# Altium footprint library linear-technology.PCBLIB: 28 footprints (part 2 of 2)
Each footprint in its own frame and in the unit in brackets; x right, y up, seen from the top. Pads: shape width x height; smd on the part's side, far side on the other; paste and mask are expansions set on the pad; w line width, h text height; cw(c..) or ccw(c..) is an arc to the next point about the centre after c.
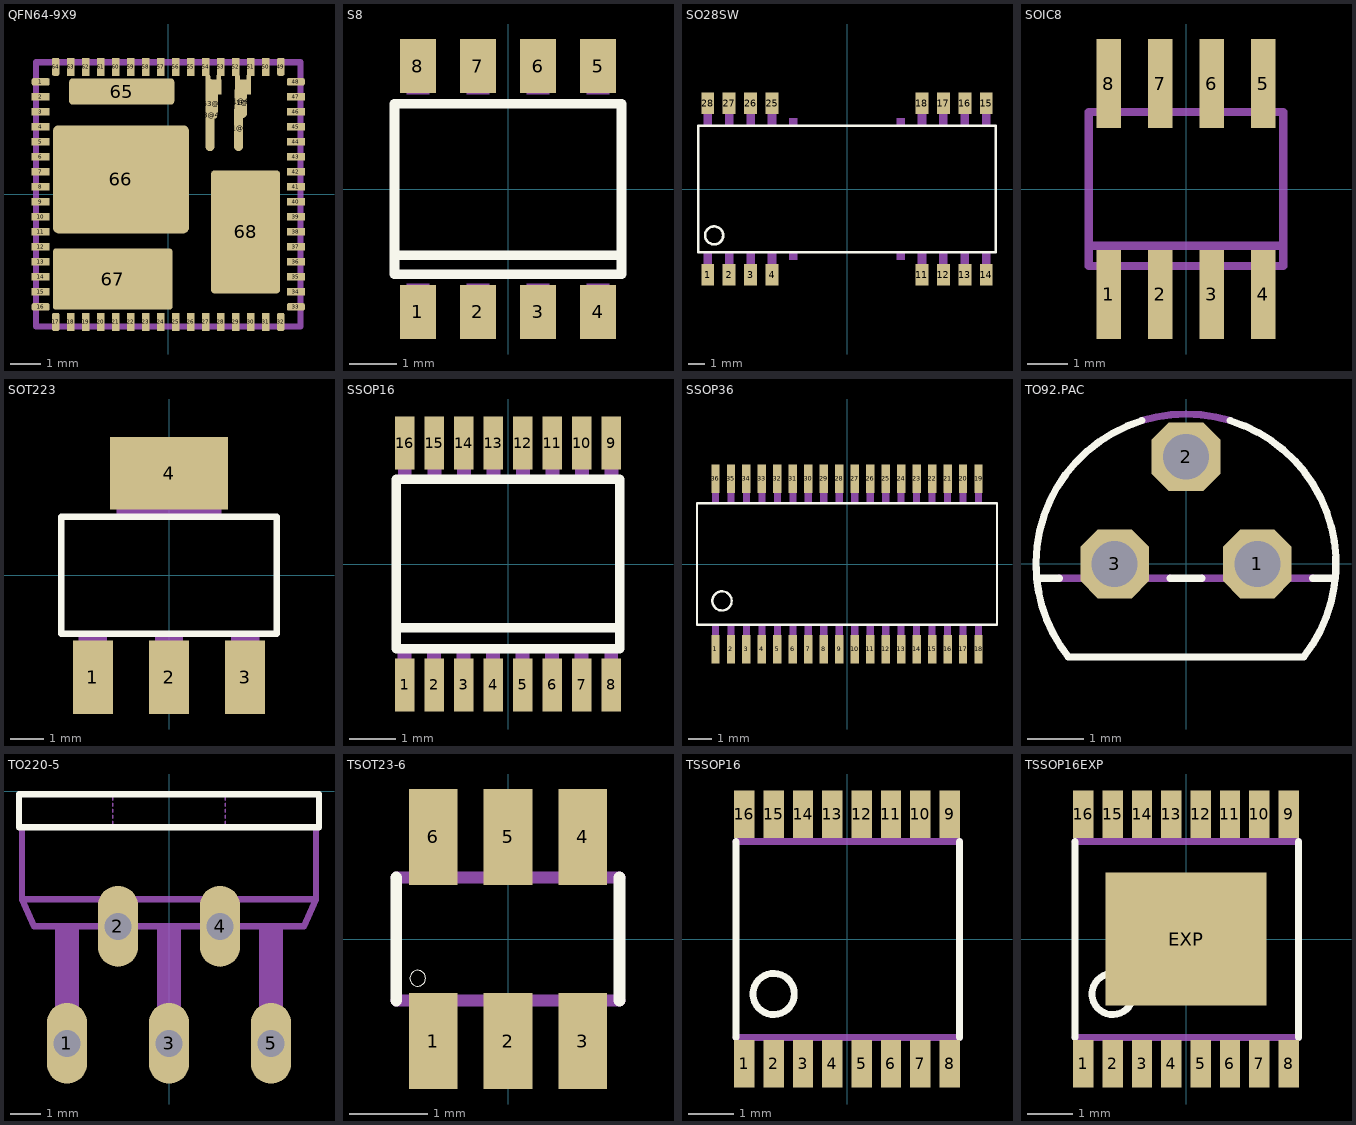
[diagram p1: the footprints below, top view; thin cyan lines are the x and y axes]

## QFN64-9X9 [mm]
pads (79):
  rrect50% 0.6x0.25 smd: 1(-4.25,3.75) 16(-4.25,-3.75) 33(4.25,-3.75) 48(4.25,3.75)
  rect 0.6x0.25 smd: 2(-4.25,3.25) 3(-4.25,2.75) 4(-4.25,2.25) 5(-4.25,1.75) 6(-4.25,1.25) 7(-4.25,0.75) 8(-4.25,0.25) 9(-4.25,-0.25) 10(-4.25,-0.75) 11(-4.25,-1.25) 12(-4.25,-1.75) 13(-4.25,-2.25) 14(-4.25,-2.75) 15(-4.25,-3.25) 34(4.25,-3.25) 35(4.25,-2.75) 36(4.25,-2.25) 37(4.25,-1.75) 38(4.25,-1.25) 39(4.25,-0.75) 40(4.25,-0.25) 41(4.25,0.25) 42(4.25,0.75) 43(4.25,1.25) 44(4.25,1.75) 45(4.25,2.25) 46(4.25,2.75) 47(4.25,3.25)
  rrect50% 0.25x0.6 smd: 17(-3.75,-4.25) 32(3.75,-4.25) 49(3.75,4.25) 64(-3.75,4.25)
  rect 0.25x0.6 smd: 18(-3.25,-4.25) 19(-2.75,-4.25) 20(-2.25,-4.25) 21(-1.75,-4.25) 22(-1.25,-4.25) 23(-0.75,-4.25) 24(-0.25,-4.25) 25(0.25,-4.25) 26(0.75,-4.25) 27(1.25,-4.25) 28(1.75,-4.25) 29(2.25,-4.25) 30(2.75,-4.25) 31(3.25,-4.25) 50(3.25,4.25) 51(2.75,4.25) 52(2.25,4.25) 53(1.75,4.25) 54(1.25,4.25) 55(0.75,4.25) 56(0.25,4.25) 57(-0.25,4.25) 58(-0.75,4.25) 59(-1.25,4.25) 60(-1.75,4.25) 61(-2.25,4.25) 62(-2.75,4.25) 63(-3.25,4.25)
  rrect50% 0.16x0.3 smd: 51@1(2.68,3.83) 52@1(2.31,3.83) 53@1(1.68,3.83) 54@1(1.32,3.83)
  rect 0.53x0.5 smd: 51@2(2.495,3.58) 53@2(1.505,3.58)
  rrect100% 0.3x1 smd: 51@3(2.475,3.045) 51@4(2.36,3.1) 53@3(1.51,3.015)
  rrect100% 0.3x1.5 smd: 51@5(2.34,2.195)
  rrect100% 0.3x2.4 smd: 53@4(1.39,2.64)
  rrect25% 3.5x0.87 smd: 65(-1.55,3.425)
  rrect10% 4.53x3.6 smd: 66(-1.575,0.5)
  rrect10% 3.99x2.04 smd: 67(-1.85,-2.825)
  rrect10% 2.3x4.1 smd: 68(2.575,-1.25)
Top Paste:
  rectangle: -4.525,3.65 -3.975,3.85
  rectangle: -4.525,3.15 -3.975,3.35
  rectangle: -4.525,2.65 -3.975,2.85
  rectangle: -4.525,2.15 -3.975,2.35
  rectangle: -4.525,1.65 -3.975,1.85
  rectangle: -4.525,1.15 -3.975,1.35
  rectangle: -4.525,0.65 -3.975,0.85
  rectangle: -4.525,0.15 -3.975,0.35
  rectangle: -4.525,-0.35 -3.975,-0.15
  rectangle: -4.525,-0.85 -3.975,-0.65
  rectangle: -4.525,-1.35 -3.975,-1.15
  rectangle: -4.525,-1.85 -3.975,-1.65
  rectangle: -4.525,-2.35 -3.975,-2.15
  rectangle: -4.525,-2.85 -3.975,-2.65
  rectangle: -4.525,-3.35 -3.975,-3.15
  rectangle: -4.525,-3.85 -3.975,-3.65
  region: -3.65,-4.525 -3.65,-3.975 -3.85,-3.975 -3.85,-4.525
  region: -3.15,-4.525 -3.15,-3.975 -3.35,-3.975 -3.35,-4.525
  region: -2.65,-4.525 -2.65,-3.975 -2.85,-3.975 -2.85,-4.525
  region: -2.15,-4.525 -2.15,-3.975 -2.35,-3.975 -2.35,-4.525
  region: -1.65,-4.525 -1.65,-3.975 -1.85,-3.975 -1.85,-4.525
  region: -1.15,-4.525 -1.15,-3.975 -1.35,-3.975 -1.35,-4.525
  region: -0.65,-4.525 -0.65,-3.975 -0.85,-3.975 -0.85,-4.525
  region: -0.15,-4.525 -0.15,-3.975 -0.35,-3.975 -0.35,-4.525
  region: 0.35,-4.525 0.35,-3.975 0.15,-3.975 0.15,-4.525
  region: 0.85,-4.525 0.85,-3.975 0.65,-3.975 0.65,-4.525
  region: 1.35,-4.525 1.35,-3.975 1.15,-3.975 1.15,-4.525
  region: 1.85,-4.525 1.85,-3.975 1.65,-3.975 1.65,-4.525
  region: 2.35,-4.525 2.35,-3.975 2.15,-3.975 2.15,-4.525
  region: 2.85,-4.525 2.85,-3.975 2.65,-3.975 2.65,-4.525
  region: 3.35,-4.525 3.35,-3.975 3.15,-3.975 3.15,-4.525
  region: 3.85,-4.525 3.85,-3.975 3.65,-3.975 3.65,-4.525
  region: 4.525,-3.65 3.975,-3.65 3.975,-3.85 4.525,-3.85
  region: 4.525,-3.15 3.975,-3.15 3.975,-3.35 4.525,-3.35
  region: 4.525,-2.65 3.975,-2.65 3.975,-2.85 4.525,-2.85
  region: 4.525,-2.15 3.975,-2.15 3.975,-2.35 4.525,-2.35
  region: 4.525,-1.65 3.975,-1.65 3.975,-1.85 4.525,-1.85
  region: 4.525,-1.15 3.975,-1.15 3.975,-1.35 4.525,-1.35
  region: 4.525,-0.65 3.975,-0.65 3.975,-0.85 4.525,-0.85
  region: 4.525,-0.15 3.975,-0.15 3.975,-0.35 4.525,-0.35
  region: 4.525,0.35 3.975,0.35 3.975,0.15 4.525,0.15
  region: 4.525,0.85 3.975,0.85 3.975,0.65 4.525,0.65
  region: 4.525,1.35 3.975,1.35 3.975,1.15 4.525,1.15
  region: 4.525,1.85 3.975,1.85 3.975,1.65 4.525,1.65
  region: 4.525,2.35 3.975,2.35 3.975,2.15 4.525,2.15
  region: 4.525,2.85 3.975,2.85 3.975,2.65 4.525,2.65
  region: 4.525,3.35 3.975,3.35 3.975,3.15 4.525,3.15
  region: 4.525,3.85 3.975,3.85 3.975,3.65 4.525,3.65
  region: 3.65,4.525 3.65,3.975 3.85,3.975 3.85,4.525
  region: 3.15,4.525 3.15,3.975 3.35,3.975 3.35,4.525
  region: 2.65,4.525 2.65,3.975 2.85,3.975 2.85,4.525
  region: 2.15,4.525 2.15,3.975 2.35,3.975 2.35,4.525
  region: 1.65,4.525 1.65,3.975 1.85,3.975 1.85,4.525
  region: 1.15,4.525 1.15,3.975 1.35,3.975 1.35,4.525
  region: 0.65,4.525 0.65,3.975 0.85,3.975 0.85,4.525
  region: 0.15,4.525 0.15,3.975 0.35,3.975 0.35,4.525
  region: -0.35,4.525 -0.35,3.975 -0.15,3.975 -0.15,4.525
  region: -0.85,4.525 -0.85,3.975 -0.65,3.975 -0.65,4.525
  region: -1.35,4.525 -1.35,3.975 -1.15,3.975 -1.15,4.525
  region: -1.85,4.525 -1.85,3.975 -1.65,3.975 -1.65,4.525
  region: -2.35,4.525 -2.35,3.975 -2.15,3.975 -2.15,4.525
  region: -2.85,4.525 -2.85,3.975 -2.65,3.975 -2.65,4.525
  region: -3.35,4.525 -3.35,3.975 -3.15,3.975 -3.15,4.525
  region: -3.85,4.525 -3.85,3.975 -3.65,3.975 -3.65,4.525
  rectangle: -3.23,3.05 0.13,3.8
  rectangle: -3.72,-1.19 0.59,2.18
  rectangle: -3.75,-3.76 0.03,-1.91
  rectangle: 1.51,-3.21 3.63,0.7
  lines w0.25: 1.39,1.59 1.39,2.66 ; 2.33,2.72 2.39,3.68 2.59,3.68 2.59,3.36 2.33,2.74 2.34,1.6 ; 1.39,2.66 1.39,3.67 1.62,3.67 1.62,3.4 1.39,2.66
Top Solder:
  rectangle: -4.575,3.6 -3.925,3.9
  rectangle: -4.575,3.1 -3.925,3.4
  rectangle: -4.575,2.6 -3.925,2.9
  rectangle: -4.575,2.1 -3.925,2.4
  rectangle: -4.575,1.6 -3.925,1.9
  rectangle: -4.575,1.1 -3.925,1.4
  rectangle: -4.575,0.6 -3.925,0.9
  rectangle: -4.575,0.1 -3.925,0.4
  rectangle: -4.575,-0.4 -3.925,-0.1
  rectangle: -4.575,-0.9 -3.925,-0.6
  rectangle: -4.575,-1.4 -3.925,-1.1
  rectangle: -4.575,-1.9 -3.925,-1.6
  rectangle: -4.575,-2.4 -3.925,-2.1
  rectangle: -4.575,-2.9 -3.925,-2.6
  rectangle: -4.575,-3.4 -3.925,-3.1
  rectangle: -4.575,-3.9 -3.925,-3.6
  region: -3.6,-4.575 -3.6,-3.925 -3.9,-3.925 -3.9,-4.575
  region: -3.1,-4.575 -3.1,-3.925 -3.4,-3.925 -3.4,-4.575
  region: -2.6,-4.575 -2.6,-3.925 -2.9,-3.925 -2.9,-4.575
  region: -2.1,-4.575 -2.1,-3.925 -2.4,-3.925 -2.4,-4.575
  region: -1.6,-4.575 -1.6,-3.925 -1.9,-3.925 -1.9,-4.575
  region: -1.1,-4.575 -1.1,-3.925 -1.4,-3.925 -1.4,-4.575
  region: -0.6,-4.575 -0.6,-3.925 -0.9,-3.925 -0.9,-4.575
  region: -0.1,-4.575 -0.1,-3.925 -0.4,-3.925 -0.4,-4.575
  region: 0.4,-4.575 0.4,-3.925 0.1,-3.925 0.1,-4.575
  region: 0.9,-4.575 0.9,-3.925 0.6,-3.925 0.6,-4.575
  region: 1.4,-4.575 1.4,-3.925 1.1,-3.925 1.1,-4.575
  region: 1.9,-4.575 1.9,-3.925 1.6,-3.925 1.6,-4.575
  region: 2.4,-4.575 2.4,-3.925 2.1,-3.925 2.1,-4.575
  region: 2.9,-4.575 2.9,-3.925 2.6,-3.925 2.6,-4.575
  region: 3.4,-4.575 3.4,-3.925 3.1,-3.925 3.1,-4.575
  region: 3.9,-4.575 3.9,-3.925 3.6,-3.925 3.6,-4.575
  region: 4.575,-3.6 3.925,-3.6 3.925,-3.9 4.575,-3.9
  region: 4.575,-3.1 3.925,-3.1 3.925,-3.4 4.575,-3.4
  region: 4.575,-2.6 3.925,-2.6 3.925,-2.9 4.575,-2.9
  region: 4.575,-2.1 3.925,-2.1 3.925,-2.4 4.575,-2.4
  region: 4.575,-1.6 3.925,-1.6 3.925,-1.9 4.575,-1.9
  region: 4.575,-1.1 3.925,-1.1 3.925,-1.4 4.575,-1.4
  region: 4.575,-0.6 3.925,-0.6 3.925,-0.9 4.575,-0.9
  region: 4.575,-0.1 3.925,-0.1 3.925,-0.4 4.575,-0.4
  region: 4.575,0.4 3.925,0.4 3.925,0.1 4.575,0.1
  region: 4.575,0.9 3.925,0.9 3.925,0.6 4.575,0.6
  region: 4.575,1.4 3.925,1.4 3.925,1.1 4.575,1.1
  region: 4.575,1.9 3.925,1.9 3.925,1.6 4.575,1.6
  region: 4.575,2.4 3.925,2.4 3.925,2.1 4.575,2.1
  region: 4.575,2.9 3.925,2.9 3.925,2.6 4.575,2.6
  region: 4.575,3.4 3.925,3.4 3.925,3.1 4.575,3.1
  region: 4.575,3.9 3.925,3.9 3.925,3.6 4.575,3.6
  region: 3.6,4.575 3.6,3.925 3.9,3.925 3.9,4.575
  region: 3.1,4.575 3.1,3.925 3.4,3.925 3.4,4.575
  region: 2.6,4.575 2.6,3.925 2.9,3.925 2.9,4.575
  region: 2.1,4.575 2.1,3.925 2.4,3.925 2.4,4.575
  region: 1.6,4.575 1.6,3.925 1.9,3.925 1.9,4.575
  region: 1.1,4.575 1.1,3.925 1.4,3.925 1.4,4.575
  region: 0.6,4.575 0.6,3.925 0.9,3.925 0.9,4.575
  region: 0.1,4.575 0.1,3.925 0.4,3.925 0.4,4.575
  region: -0.4,4.575 -0.4,3.925 -0.1,3.925 -0.1,4.575
  region: -0.9,4.575 -0.9,3.925 -0.6,3.925 -0.6,4.575
  region: -1.4,4.575 -1.4,3.925 -1.1,3.925 -1.1,4.575
  region: -1.9,4.575 -1.9,3.925 -1.6,3.925 -1.6,4.575
  region: -2.4,4.575 -2.4,3.925 -2.1,3.925 -2.1,4.575
  region: -2.9,4.575 -2.9,3.925 -2.6,3.925 -2.6,4.575
  region: -3.4,4.575 -3.4,3.925 -3.1,3.925 -3.1,4.575
  region: -3.9,4.575 -3.9,3.925 -3.6,3.925 -3.6,4.575
  rectangle: -3.325,2.975 0.225,3.875
  rectangle: -3.875,-1.325 0.725,2.325
  rectangle: -3.875,-3.875 0.175,-1.775
  rectangle: 1.4,-3.325 3.75,0.825
  rectangle: 2.35,2.84 2.6,3.85
  rectangle: 1.4,2.95 1.55,3.85
  lines w0.25: 1.32,3.92 1.32,1.54 1.45,1.54 1.45,2.63 ; 2.31,3.92 2.31,3.56 2.24,2.63 2.24,1.5 2.43,1.5 2.43,2.67 2.68,3.3 2.68,3.92
  lines w0.3: 1.45,2.7 1.675,3.375 1.675,3.95
Mechanical 16:
  lines w0.203: -4.4,-4.4 4.4,-4.4 4.4,4.4 -4.4,4.4 -4.4,-4.4

## S8 [mil]
pads (8):
  rect 30x45 smd: 1(-75,-102.36) 2(-25,-102.36) 3(25,-102.36) 4(75,-102.36) 5(75,102.36) 6(25,102.36) 7(-25,102.36) 8(-75,102.36)
Top Overlay:
  lines w8: -94.49,-55.12 -94.49,-70.87 94.49,-70.87 94.49,-55.12 ; -94.49,-55.12 -94.49,70.87 94.49,70.87 94.49,-55.12 ; -94.49,-55.12 94.49,-55.12
Mechanical 16:
  rectangle: -84.65,-122.05 -65.35,-78.74
  rectangle: -34.65,-122.05 -15.35,-78.74
  rectangle: 15.35,-122.05 34.65,-78.74
  rectangle: 65.35,-122.05 84.65,-78.74
  rectangle: 65.35,78.74 84.65,122.05
  rectangle: 15.35,78.74 34.65,122.05
  rectangle: -34.65,78.74 -15.35,122.05
  rectangle: -84.65,78.74 -65.35,122.05

## SO28SW [mil]
pads (16):
  rect 30x50 smd: 1(-325,-200) 2(-275,-200) 3(-225,-200) 4(-175,-200) 11(175,-200) 12(225,-200) 13(275,-200) 14(325,-200) 15(325,200) 16(275,200) 17(225,200) 18(175,200) 25(-175,200) 26(-225,200) 27(-275,200) 28(-325,200)
Top Overlay:
  circle w6: c-310,-108.25 r21
  lines w6: -347.44,-147.64 347.44,-147.64 347.44,147.64 -347.44,147.64 -347.44,-147.64
Mechanical 16:
  rectangle: -335,-208.25 -315,-148.25
  rectangle: -285,-208.25 -265,-148.25
  rectangle: -235,-208.25 -215,-148.25
  rectangle: -185,-208.25 -165,-148.25
  rectangle: -135,-165.35 -115,-148.25
  rectangle: 115,-165.35 135,-148.25
  rectangle: 165,-208.25 185,-148.25
  rectangle: 215,-208.25 235,-148.25
  rectangle: 265,-208.25 285,-148.25
  rectangle: 315,-208.25 335,-148.25
  region: 335,208.25 315,208.25 315,148.25 335,148.25
  region: 285,208.25 265,208.25 265,148.25 285,148.25
  region: 235,208.25 215,208.25 215,148.25 235,148.25
  region: 185,208.25 165,208.25 165,148.25 185,148.25
  region: 135,165.35 115,165.35 115,148.25 135,148.25
  region: -115,165.35 -135,165.35 -135,148.25 -115,148.25
  region: -165,208.25 -185,208.25 -185,148.25 -165,148.25
  region: -215,208.25 -235,208.25 -235,148.25 -215,148.25
  region: -265,208.25 -285,208.25 -285,148.25 -265,148.25
  region: -315,208.25 -335,208.25 -335,148.25 -315,148.25

## SOIC8 [mm]
pads (8):
  rect 0.6x2.2 smd: 1(-1.905,-2.6) 2(-0.635,-2.6) 3(0.635,-2.6) 4(1.905,-2.6) 5(1.905,2.6) 6(0.635,2.6) 7(-0.635,2.6) 8(-1.905,2.6)
Mechanical 16:
  rectangle: -2.15,-3.1 -1.66,-2
  rectangle: -0.88,-3.1 -0.39,-2
  rectangle: 0.39,-3.1 0.88,-2
  rectangle: 1.66,-3.1 2.15,-2
  rectangle: 1.66,2 2.15,3.1
  rectangle: 0.39,2 0.88,3.1
  rectangle: -0.88,2 -0.39,3.1
  rectangle: -2.15,2 -1.66,3.1
  lines w0.203: -2.4,-1.4 -2.4,-1.9 2.4,-1.9 2.4,-1.4 ; -2.4,-1.4 -2.4,1.9 2.4,1.9 2.4,-1.4 ; -2.4,-1.4 2.4,-1.4

## SOT223 [mil]
pads (4):
  rect 48x88 smd: 1(-91,-122) 2(0,-122) 3(91,-122)
  rect 141.73x86.61 smd: 4(0,122.01)
Top Overlay:
  lines w8: -129,-70 129,-70 129,70 -129,70 -129,-70
Mechanical 16:
  rectangle: -63,71 63,144
  rectangle: -17,-144 17,-71
  rectangle: -108,-144 -74,-71
  rectangle: 74,-144 108,-71
  rectangle: -63,71 63,144
  rectangle: -17,-144 17,-71
  rectangle: -108,-144 -74,-71
  rectangle: 74,-144 108,-71

## SSOP16 [mil]
pads (16):
  rect 16.5x45 smd: 1(-87.5,-102.36) 2(-62.5,-102.36) 3(-37.5,-102.36) 4(-12.5,-102.36) 5(12.5,-102.36) 6(37.5,-102.36) 7(62.5,-102.36) 8(87.5,-102.36) 9(87.5,102.36) 10(62.5,102.36) 11(37.5,102.36) 12(12.5,102.36) 13(-12.5,102.36) 14(-37.5,102.36) 15(-62.5,102.36) 16(-87.5,102.36)
Top Overlay:
  lines w8: -94.49,-54.13 -94.49,-71.85 94.49,-71.85 94.49,-54.13 ; -94.49,-54.13 -94.49,71.85 94.49,71.85 94.49,-54.13 ; -94.49,-54.13 94.49,-54.13
Top Paste:
  rectangle: -95,-124 -80,-81
  rectangle: -70,-124 -55,-81
  rectangle: -45,-124 -30,-81
  rectangle: -20,-124 -5,-81
  rectangle: 5,-124 20,-81
  rectangle: 30,-124 45,-81
  rectangle: 55,-124 70,-81
  rectangle: 80,-124 95,-81
  region: 95,124 80,124 80,81 95,81
  region: 70,124 55,124 55,81 70,81
  region: 45,124 30,124 30,81 45,81
  region: 20,124 5,124 5,81 20,81
  region: -5,124 -20,124 -20,81 -5,81
  region: -30,124 -45,124 -45,81 -30,81
  region: -55,124 -70,124 -70,81 -55,81
  region: -80,124 -95,124 -95,81 -80,81
Top Solder:
  rectangle: -97,-127 -78,-78
  rectangle: -72,-127 -53,-78
  rectangle: -47,-127 -28,-78
  rectangle: -22,-127 -3,-78
  rectangle: 3,-127 22,-78
  rectangle: 28,-127 47,-78
  rectangle: 53,-127 72,-78
  rectangle: 78,-127 97,-78
  region: 97,127 78,127 78,78 97,78
  region: 72,127 53,127 53,78 72,78
  region: 47,127 28,127 28,78 47,78
  region: 22,127 3,127 3,78 22,78
  region: -3,127 -22,127 -22,78 -3,78
  region: -28,127 -47,127 -47,78 -28,78
  region: -53,127 -72,127 -72,78 -53,78
  region: -78,127 -97,127 -97,78 -78,78
Mechanical 16:
  rectangle: -93.5,-122.05 -81.69,-74.8
  rectangle: -68.5,-122.05 -56.69,-74.8
  rectangle: -43.5,-122.05 -31.69,-74.8
  rectangle: -18.5,-122.05 -6.69,-74.8
  rectangle: 6.5,-122.05 18.31,-74.8
  rectangle: 31.5,-122.05 43.31,-74.8
  rectangle: 56.5,-122.05 68.31,-74.8
  rectangle: 81.5,-122.05 93.31,-74.8
  region: 93.5,122.05 81.69,122.05 81.69,74.8 93.5,74.8
  region: 68.5,122.05 56.69,122.05 56.69,74.8 68.5,74.8
  region: 43.5,122.05 31.69,122.05 31.69,74.8 43.5,74.8
  region: 18.5,122.05 6.69,122.05 6.69,74.8 18.5,74.8
  region: -6.5,122.05 -18.31,122.05 -18.31,74.8 -6.5,74.8
  region: -31.5,122.05 -43.31,122.05 -43.31,74.8 -31.5,74.8
  region: -56.5,122.05 -68.31,122.05 -68.31,74.8 -56.5,74.8
  region: -81.5,122.05 -93.31,122.05 -93.31,74.8 -81.5,74.8

## SSOP36 [mm]
pads (36):
  rect 0.35x1.2 smd: 1(-5.525,-3.575) 2(-4.875,-3.575) 3(-4.225,-3.575) 4(-3.575,-3.575) 5(-2.925,-3.575) 6(-2.275,-3.575) 7(-1.625,-3.575) 8(-0.975,-3.575) 9(-0.325,-3.575) 10(0.325,-3.575) 11(0.975,-3.575) 12(1.625,-3.575) 13(2.275,-3.575) 14(2.925,-3.575) 15(3.575,-3.575) 16(4.225,-3.575) 17(4.875,-3.575) 18(5.525,-3.575) 19(5.525,3.575) 20(4.875,3.575) 21(4.225,3.575) 22(3.575,3.575) 23(2.925,3.575) 24(2.275,3.575) 25(1.625,3.575) 26(0.975,3.575) 27(0.325,3.575) 28(-0.325,3.575) 29(-0.975,3.575) 30(-1.625,3.575) 31(-2.275,3.575) 32(-2.925,3.575) 33(-3.575,3.575) 34(-4.225,3.575) 35(-4.875,3.575) 36(-5.525,3.575)
Top Overlay:
  circle w0.102: c-5.25,-1.55 r0.403
  lines w0.102: -6.3,-2.55 6.3,-2.55 6.3,2.55 -6.3,2.55 -6.3,-2.55
Mechanical 16:
  rectangle: -5.675,-3.95 -5.375,-2.55
  rectangle: -5.025,-3.95 -4.725,-2.55
  rectangle: -4.375,-3.95 -4.075,-2.55
  rectangle: -3.725,-3.95 -3.425,-2.55
  rectangle: -3.075,-3.95 -2.775,-2.55
  rectangle: -2.425,-3.95 -2.125,-2.55
  rectangle: -1.775,-3.95 -1.475,-2.55
  rectangle: -1.125,-3.95 -0.825,-2.55
  rectangle: -0.475,-3.95 -0.175,-2.55
  rectangle: 0.175,-3.95 0.475,-2.55
  rectangle: 0.825,-3.95 1.125,-2.55
  rectangle: 1.475,-3.95 1.775,-2.55
  rectangle: 2.125,-3.95 2.425,-2.55
  rectangle: 2.775,-3.95 3.075,-2.55
  rectangle: 3.425,-3.95 3.725,-2.55
  rectangle: 4.075,-3.95 4.375,-2.55
  rectangle: 4.725,-3.95 5.025,-2.55
  rectangle: 5.375,-3.95 5.675,-2.55
  region: 5.675,3.95 5.375,3.95 5.375,2.55 5.675,2.55
  region: 5.025,3.95 4.725,3.95 4.725,2.55 5.025,2.55
  region: 4.375,3.95 4.075,3.95 4.075,2.55 4.375,2.55
  region: 3.725,3.95 3.425,3.95 3.425,2.55 3.725,2.55
  region: 3.075,3.95 2.775,3.95 2.775,2.55 3.075,2.55
  region: 2.425,3.95 2.125,3.95 2.125,2.55 2.425,2.55
  region: 1.775,3.95 1.475,3.95 1.475,2.55 1.775,2.55
  region: 1.125,3.95 0.825,3.95 0.825,2.55 1.125,2.55
  region: 0.475,3.95 0.175,3.95 0.175,2.55 0.475,2.55
  region: -0.175,3.95 -0.475,3.95 -0.475,2.55 -0.175,2.55
  region: -0.825,3.95 -1.125,3.95 -1.125,2.55 -0.825,2.55
  region: -1.475,3.95 -1.775,3.95 -1.775,2.55 -1.475,2.55
  region: -2.125,3.95 -2.425,3.95 -2.425,2.55 -2.125,2.55
  region: -2.775,3.95 -3.075,3.95 -3.075,2.55 -2.775,2.55
  region: -3.425,3.95 -3.725,3.95 -3.725,2.55 -3.425,2.55
  region: -4.075,3.95 -4.375,3.95 -4.375,2.55 -4.075,2.55
  region: -4.725,3.95 -5.025,3.95 -5.025,2.55 -4.725,2.55
  region: -5.375,3.95 -5.675,3.95 -5.675,2.55 -5.375,2.55

## TO92.PAC [mil]
pads (3):
  oct 48x48 hole 32: 1(50,0) 2(0,75) 3(-50,0)
Top Overlay:
  lines w5: -88.73,-10 -104.52,-10 ; -30.96,100.33 ccw(c0,0) -104.52,-10 ; -11.27,-10 11.27,-10 ; 30.96,100.33 cw(c0,0) 82.46,-65 -82.46,-65 cw(c0,0) -104.52,-10 ; 88.73,-10 104.52,-10
Mechanical 16:
  lines w5: -88.73,-10 -11.27,-10 ; -30.96,100.33 cw(c0,-0.02) 30.96,100.33 ; 11.27,-10 88.73,-10
  text "2" at -25,25 h77.5
  text "3" at -85,0 h77.5
  text "1" at 45,0 h77.5

## TO220-5 [mm]
pads (5):
  oval 1.35x2.7 hole 0.9: 1(-3.4,-8.4) 2(-1.7,-4.5) 3(0,-8.4) 4(1.7,-4.5) 5(3.4,-8.4)
Top Overlay:
  lines w0.203: -5,-1.2 -5,-0.1 5,-0.1 5,-1.2 -5,-1.2
Mechanical 16:
  rectangle: -3.8,-8.6 -3,-7.5
  rectangle: -0.4,-8.6 0.4,-7.5
  rectangle: 3,-8.6 3.8,-7.5
  rectangle: -3.8,-7.5 -3,-4.5
  rectangle: -0.4,-7.5 0.4,-4.5
  rectangle: 3,-7.5 3.8,-4.5
  rectangle: -2.1,-4.7 -1.3,-4.5
  rectangle: 1.3,-4.7 2.1,-4.5
  lines w0.051: -1.87,-1.17 -1.87,-1 ; -1.87,-0.9 -1.87,-0.8 ; -1.87,-0.7 -1.87,-0.6 ; -1.87,-0.5 -1.87,-0.4 ; -1.87,-0.3 -1.87,-0.2 ; 1.87,-1.17 1.87,-1 ; 1.87,-0.9 1.87,-0.8 ; 1.87,-0.7 1.87,-0.6 ; 1.87,-0.5 1.87,-0.4 ; 1.87,-0.3 1.87,-0.2
  lines w0.203: -4.9,-1.2 -4.9,-3.6 ; 4.9,-1.2 4.9,-3.6 ; -4.9,-3.6 -4.5,-4.5 4.5,-4.5 4.9,-3.6 ; -4.9,-3.6 4.9,-3.6

## TSOT23-6 [mm]
pads (6):
  rect 0.62x1.22 smd: 1(-0.95,-1.3) 2(0,-1.3) 3(0.95,-1.3) 4(0.95,1.3) 5(0,1.3) 6(-0.95,1.3)
Top Overlay:
  circle w0: c-1.15,-0.5 r0.1
  lines w0.152: -1.423,-0.781 -1.423,0.781 ; 1.422,-0.781 1.422,0.781
Mechanical 16:
  rectangle: -1.175,-1.4 -0.725,-0.8
  rectangle: -0.225,-1.4 0.225,-0.8
  rectangle: 0.725,-1.4 1.175,-0.8
  rectangle: 0.725,0.8 1.175,1.4
  rectangle: -0.225,0.8 0.225,1.4
  rectangle: -1.175,0.8 -0.725,1.4
  lines w0.152: -1.423,-0.781 1.422,-0.781 ; -1.423,0.781 1.422,0.781

## TSSOP16 [mm]
pads (16):
  rect 0.45x1.05 smd: 1(-2.275,-2.768) 2(-1.625,-2.768) 3(-0.975,-2.768) 4(-0.325,-2.768) 5(0.325,-2.768) 6(0.975,-2.768) 7(1.625,-2.768) 8(2.275,-2.768) 9(2.275,2.768) 10(1.625,2.768) 11(0.975,2.768) 12(0.325,2.768) 13(-0.325,2.768) 14(-0.975,2.768) 15(-1.625,2.768) 16(-2.275,2.768)
Top Overlay:
  circle w0.152: c-1.626,-1.219 r0.457
  lines w0.152: -2.465,-2.183 -2.465,2.158 ; 2.49,-2.183 2.49,2.158
Top Solder:
  rectangle: -2.525,-3.325 -2.025,-2.225
  rectangle: -1.875,-3.325 -1.375,-2.225
  rectangle: -1.225,-3.325 -0.725,-2.225
  rectangle: -0.575,-3.325 -0.075,-2.225
  rectangle: 0.075,-3.325 0.575,-2.225
  rectangle: 0.725,-3.325 1.225,-2.225
  rectangle: 1.375,-3.325 1.875,-2.225
  rectangle: 2.025,-3.325 2.525,-2.225
  region: 2.525,3.325 2.025,3.325 2.025,2.225 2.525,2.225
  region: 1.875,3.325 1.375,3.325 1.375,2.225 1.875,2.225
  region: 1.225,3.325 0.725,3.325 0.725,2.225 1.225,2.225
  region: 0.575,3.325 0.075,3.325 0.075,2.225 0.575,2.225
  region: -0.075,3.325 -0.575,3.325 -0.575,2.225 -0.075,2.225
  region: -0.725,3.325 -1.225,3.325 -1.225,2.225 -0.725,2.225
  region: -1.375,3.325 -1.875,3.325 -1.875,2.225 -1.375,2.225
  region: -2.025,3.325 -2.525,3.325 -2.525,2.225 -2.025,2.225
Mechanical 16:
  region: -2.125,-2.2 -2.425,-2.2 -2.425,-3.2 -2.125,-3.2
  region: -1.475,-2.2 -1.775,-2.2 -1.775,-3.2 -1.475,-3.2
  region: -0.825,-2.2 -1.125,-2.2 -1.125,-3.2 -0.825,-3.2
  region: -0.175,-2.2 -0.475,-2.2 -0.475,-3.2 -0.175,-3.2
  region: 0.475,-2.2 0.175,-2.2 0.175,-3.2 0.475,-3.2
  region: 1.125,-2.2 0.825,-2.2 0.825,-3.2 1.125,-3.2
  region: 1.775,-2.2 1.475,-2.2 1.475,-3.2 1.775,-3.2
  region: 2.425,-2.2 2.125,-2.2 2.125,-3.2 2.425,-3.2
  rectangle: 2.125,2.2 2.425,3.2
  rectangle: 1.475,2.2 1.775,3.2
  rectangle: 0.825,2.2 1.125,3.2
  rectangle: 0.175,2.2 0.475,3.2
  rectangle: -0.475,2.2 -0.175,3.2
  rectangle: -1.125,2.2 -0.825,3.2
  rectangle: -1.775,2.2 -1.475,3.2
  rectangle: -2.425,2.2 -2.125,3.2
  lines w0.152: -2.465,-2.183 2.49,-2.183 ; -2.465,2.158 2.49,2.158

## TSSOP16EXP [mm]
pads (17):
  rect 0.45x1.05 smd: 1(-2.275,-2.768) 2(-1.625,-2.768) 3(-0.975,-2.768) 4(-0.325,-2.768) 5(0.325,-2.768) 6(0.975,-2.768) 7(1.625,-2.768) 8(2.275,-2.768) 9(2.275,2.768) 10(1.625,2.768) 11(0.975,2.768) 12(0.325,2.768) 13(-0.325,2.768) 14(-0.975,2.768) 15(-1.625,2.768) 16(-2.275,2.768)
  rect 3.58x2.94 smd: EXP(0,0)
Top Overlay:
  circle w0.152: c-1.626,-1.219 r0.457
  lines w0.152: -2.465,-2.183 -2.465,2.158 ; 2.49,-2.183 2.49,2.158
Top Solder:
  rectangle: -2.525,-3.325 -2.025,-2.225
  rectangle: -1.875,-3.325 -1.375,-2.225
  rectangle: -1.225,-3.325 -0.725,-2.225
  rectangle: -0.575,-3.325 -0.075,-2.225
  rectangle: 0.075,-3.325 0.575,-2.225
  rectangle: 0.725,-3.325 1.225,-2.225
  rectangle: 1.375,-3.325 1.875,-2.225
  rectangle: 2.025,-3.325 2.525,-2.225
  region: 2.525,3.325 2.025,3.325 2.025,2.225 2.525,2.225
  region: 1.875,3.325 1.375,3.325 1.375,2.225 1.875,2.225
  region: 1.225,3.325 0.725,3.325 0.725,2.225 1.225,2.225
  region: 0.575,3.325 0.075,3.325 0.075,2.225 0.575,2.225
  region: -0.075,3.325 -0.575,3.325 -0.575,2.225 -0.075,2.225
  region: -0.725,3.325 -1.225,3.325 -1.225,2.225 -0.725,2.225
  region: -1.375,3.325 -1.875,3.325 -1.875,2.225 -1.375,2.225
  region: -2.025,3.325 -2.525,3.325 -2.525,2.225 -2.025,2.225
Mechanical 16:
  region: -2.125,-2.2 -2.425,-2.2 -2.425,-3.2 -2.125,-3.2
  region: -1.475,-2.2 -1.775,-2.2 -1.775,-3.2 -1.475,-3.2
  region: -0.825,-2.2 -1.125,-2.2 -1.125,-3.2 -0.825,-3.2
  region: -0.175,-2.2 -0.475,-2.2 -0.475,-3.2 -0.175,-3.2
  region: 0.475,-2.2 0.175,-2.2 0.175,-3.2 0.475,-3.2
  region: 1.125,-2.2 0.825,-2.2 0.825,-3.2 1.125,-3.2
  region: 1.775,-2.2 1.475,-2.2 1.475,-3.2 1.775,-3.2
  region: 2.425,-2.2 2.125,-2.2 2.125,-3.2 2.425,-3.2
  rectangle: 2.125,2.2 2.425,3.2
  rectangle: 1.475,2.2 1.775,3.2
  rectangle: 0.825,2.2 1.125,3.2
  rectangle: 0.175,2.2 0.475,3.2
  rectangle: -0.475,2.2 -0.175,3.2
  rectangle: -1.125,2.2 -0.825,3.2
  rectangle: -1.775,2.2 -1.475,3.2
  rectangle: -2.425,2.2 -2.125,3.2
  lines w0.152: -2.465,-2.183 2.49,-2.183 ; -2.465,2.158 2.49,2.158